# Altium footprint library Hirose-DF13.PcbLib: 27 footprints (part 1 of 2)
Each footprint in its own frame and in the unit in brackets; x right, y up, seen from the top. Pads: shape width x height; smd on the part's side, far side on the other; paste and mask are expansions set on the pad; w line width, h text height; cw(c..) or ccw(c..) is an arc to the next point about the centre after c.
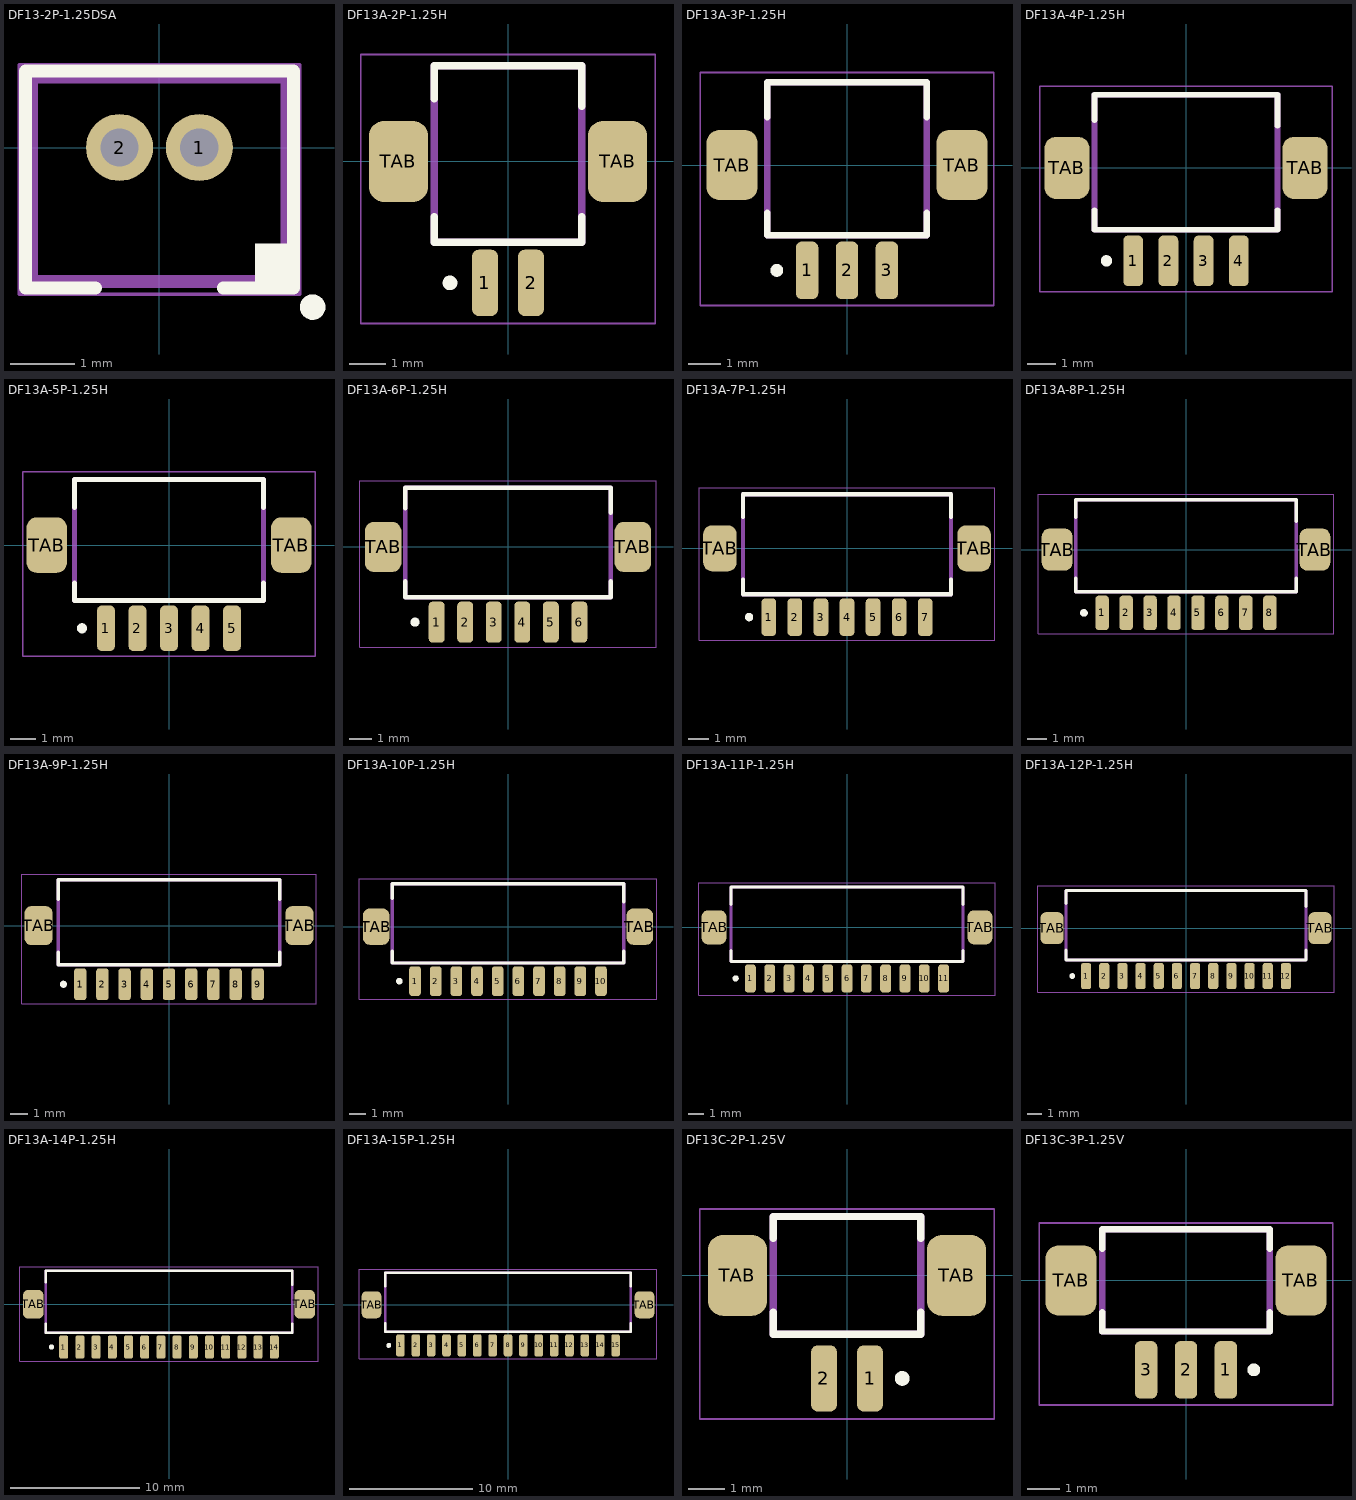
[diagram p0: the footprints below, top view; thin cyan lines are the x and y axes]

## DF13-2P-1.25DSA [mm] "DF13-2P-1.25DSA"
pads (2):
  round 1.05 hole 0.6: 1(0.625,0) 2(-0.625,0)
Top Overlay:
  circle w0.2: c2.4,-2.5 r0.1
  rectangle: 1.5,-2.2 2.1,-1.5
  lines w0.2: -1,-2.2 -2.1,-2.2 -2.1,1.2 2.1,1.2 2.1,-2.2 1,-2.2
Top Solder:
  circle w0: c-0.625,0 r0.55
  circle w0: c0.625,0 r0.55
Bottom Solder:
  circle w0: c0.625,0 r0.55
  circle w0: c-0.625,0 r0.55
Mechanical 13:
  lines w0.2: -2,-2.1 -2,1.1 2,1.1 2,-2.1 -2,-2.1
Mechanical 15:
  lines w0.05: -2.2,-2.3 -2.2,1.3 2.2,1.3 2.2,-2.3 -2.2,-2.3
  text ".Designator" at -2.2,-1.3 h1
3D body "DF13-2P-1.25DSA.stp": height 4.3, standoff -2.3, extent -2.075,-2.2 2.075,1.2

## DF13A-2P-1.25H [mm]
pads (4):
  rrect50% 0.7x1.8 smd: 1(-0.625,-3.3) 2(0.625,-3.3)
  rrect50% 1.6x2.2 smd: TAB(-2.975,0) TAB(2.975,0)
Top Overlay:
  circle w0.2: c-1.575,-3.3 r0.1
  lines w0.2: -2,-1.5 -2,-2.2 2,-2.2 2,-1.5 ; -2,1.7 -2,2.6 2,2.6 2,1.5
Mechanical 13:
  lines w0.2: -2,-2.2 -2,2.6 2,2.6 2,-2.2 -2,-2.2
Mechanical 15:
  lines w0.05: -4,-4.4 4,-4.4 4,2.9 -4,2.9 -4,-4.4
  text ".Designator" at -3.7,1.7 h1.5
3D body "DF13A-2P-1.25H.stp": height 3.6, standoff 0, extent -3.575,-3.8 3.575,2.7

## DF13A-3P-1.25H [mm]
pads (5):
  rrect50% 0.7x1.8 smd: 1(-1.25,-3.3) 2(0,-3.3) 3(1.25,-3.3)
  rrect50% 1.6x2.2 smd: TAB(-3.6,0) TAB(3.6,0)
Top Overlay:
  circle w0.2: c-2.2,-3.3 r0.1
  lines w0.2: -2.5,-1.5 -2.5,-2.2 2.5,-2.2 2.5,-1.5 ; -2.5,1.5 -2.5,2.6 2.5,2.6 2.5,1.5
Mechanical 13:
  lines w0.2: -2.5,-2.2 -2.5,2.6 2.5,2.6 2.5,-2.2 -2.5,-2.2
Mechanical 15:
  lines w0.05: -4.6,-4.4 4.6,-4.4 4.6,2.9 -4.6,2.9 -4.6,-4.4
  text ".Designator" at -4.4,1.7 h1.5
3D body "DF13A-3P-1.25H.stp": height 3.6, standoff 0, extent -4.2,-3.8 4.2,2.7

## DF13A-4P-1.25H [mm]
pads (6):
  rrect50% 0.7x1.8 smd: 1(-1.875,-3.3) 2(-0.625,-3.3) 3(0.625,-3.3) 4(1.875,-3.3)
  rrect50% 1.6x2.2 smd: TAB(-4.225,0) TAB(4.225,0)
Top Overlay:
  circle w0.2: c-2.825,-3.3 r0.1
  lines w0.2: -3.25,-1.5 -3.25,-2.2 3.25,-2.2 3.25,-1.5 ; -3.25,1.7 -3.25,2.6 3.25,2.6 3.25,1.5
Mechanical 13:
  lines w0.2: -3.25,-2.2 3.25,-2.2 3.25,2.6 -3.25,2.6 -3.25,-2.2
Mechanical 15:
  lines w0.05: -5.2,-4.4 -5.2,2.9 5.2,2.9 5.2,-4.4 -5.2,-4.4
  text ".Designator" at -4.4,1.7 h1.5
3D body "DF13A-4P-1.25H.stp": height 3.6, standoff 0, extent -4.825,-3.8 4.825,2.7

## DF13A-5P-1.25H [mm]
pads (7):
  rrect50% 0.7x1.8 smd: 1(-2.5,-3.3) 2(-1.25,-3.3) 3(0,-3.3) 4(1.25,-3.3) 5(2.5,-3.3)
  rrect50% 1.6x2.2 smd: TAB(-4.85,0) TAB(4.85,0)
Top Overlay:
  circle w0.2: c-3.45,-3.3 r0.1
  lines w0.2: -3.75,-1.5 -3.75,-2.2 3.75,-2.2 3.75,-1.5 ; -3.75,1.5 -3.75,2.6 3.75,2.6 3.75,1.5
Mechanical 13:
  lines w0.2: -3.75,-2.2 3.75,-2.2 3.75,2.6 -3.75,2.6 -3.75,-2.2
Mechanical 15:
  lines w0.05: -5.8,-4.4 -5.8,2.9 5.8,2.9 5.8,-4.4 -5.8,-4.4
  text ".Designator" at -4.4,1.7 h1.5
3D body "DF13A-5P-1.25H.stp": height 3.6, standoff 0, extent -5.45,-3.8 5.45,2.7

## DF13A-6P-1.25H [mm]
pads (8):
  rrect50% 0.7x1.8 smd: 1(-3.125,-3.3) 2(-1.875,-3.3) 3(-0.625,-3.3) 4(0.625,-3.3) 5(1.875,-3.3) 6(3.125,-3.3)
  rrect50% 1.6x2.2 smd: TAB(-5.475,0) TAB(5.475,0)
Top Overlay:
  circle w0.2: c-4.075,-3.3 r0.1
  lines w0.2: -4.5,-1.5 -4.5,-2.2 4.5,-2.2 4.5,-1.5 ; -4.5,1.7 -4.5,2.6 4.5,2.6 4.5,1.5
Mechanical 13:
  lines w0.2: -4.5,-2.2 -4.5,2.6 4.5,2.6 4.5,-2.2 -4.5,-2.2
Mechanical 15:
  lines w0.05: -6.5,-4.4 6.5,-4.4 6.5,2.9 -6.5,2.9 -6.5,-4.4
  text ".Designator" at -4.4,1.7 h1.5
3D body "DF13A-6P-1.25H.stp": height 3.6, standoff 0, extent -6.075,-3.8 6.075,2.7

## DF13A-7P-1.25H [mm]
pads (9):
  rrect50% 0.7x1.8 smd: 1(-3.75,-3.3) 2(-2.5,-3.3) 3(-1.25,-3.3) 4(0,-3.3) 5(1.25,-3.3) 6(2.5,-3.3) 7(3.75,-3.3)
  rrect50% 1.6x2.2 smd: TAB(-6.1,0) TAB(6.1,0)
Top Overlay:
  circle w0.2: c-4.7,-3.3 r0.1
  lines w0.2: -5,-1.5 -5,-2.2 5,-2.2 5,-1.5 ; -5,1.5 -5,2.6 5,2.6 5,1.5
Mechanical 13:
  lines w0.2: -5,-2.2 -5,2.6 5,2.6 5,-2.2 -5,-2.2
Mechanical 15:
  lines w0.05: -7.1,-4.4 7.1,-4.4 7.1,2.9 -7.1,2.9 -7.1,-4.4
  text ".Designator" at -4.4,1.7 h1.5
3D body "DF13A-7P-1.25H.stp": height 3.6, standoff 0, extent -6.7,-3.8 6.7,2.7

## DF13A-8P-1.25H [mm]
pads (10):
  rrect50% 0.7x1.8 smd: 1(-4.375,-3.3) 2(-3.125,-3.3) 3(-1.875,-3.3) 4(-0.625,-3.3) 5(0.625,-3.3) 6(1.875,-3.3) 7(3.125,-3.3) 8(4.375,-3.3)
  rrect50% 1.6x2.2 smd: TAB(-6.725,0) TAB(6.725,0)
Top Overlay:
  circle w0.2: c-5.325,-3.3 r0.1
  lines w0.2: -5.75,-1.5 -5.75,-2.2 5.75,-2.2 5.75,-1.5 ; -5.75,1.7 -5.75,2.6 5.75,2.6 5.75,1.5
Mechanical 13:
  lines w0.2: -5.75,-2.2 -5.75,2.6 5.75,2.6 5.75,-2.2 -5.75,-2.2
Mechanical 15:
  lines w0.05: -7.7,-4.4 7.7,-4.4 7.7,2.9 -7.7,2.9 -7.7,-4.4
  text ".Designator" at -4.4,1.7 h1.5
3D body "DF13A-8P-1.25H.stp": height 3.6, standoff 0, extent -7.325,-3.8 7.325,2.7

## DF13A-9P-1.25H [mm]
pads (11):
  rrect50% 0.7x1.8 smd: 1(-5,-3.3) 2(-3.75,-3.3) 3(-2.5,-3.3) 4(-1.25,-3.3) 5(0,-3.3) 6(1.25,-3.3) 7(2.5,-3.3) 8(3.75,-3.3) 9(5,-3.3)
  rrect50% 1.6x2.2 smd: TAB(-7.35,0) TAB(7.35,0)
Top Overlay:
  circle w0.2: c-5.95,-3.3 r0.1
  lines w0.2: -6.25,-1.5 -6.25,-2.2 6.25,-2.2 6.25,-1.5 ; -6.25,1.5 -6.25,2.6 6.25,2.6 6.25,1.5
Mechanical 13:
  lines w0.2: -6.25,-2.2 6.25,-2.2 6.25,2.6 -6.25,2.6 -6.25,-2.2
Mechanical 15:
  lines w0.05: -8.3,-4.4 -8.3,2.9 8.3,2.9 8.3,-4.4 -8.3,-4.4
  text ".Designator" at -5.65,1.7 h1.5
3D body "DF13A-9P-1.25H.stp": height 3.6, standoff 0, extent -7.95,-3.8 7.95,2.7

## DF13A-10P-1.25H [mm]
pads (12):
  rrect50% 0.7x1.8 smd: 1(-5.625,-3.3) 2(-4.375,-3.3) 3(-3.125,-3.3) 4(-1.875,-3.3) 5(-0.625,-3.3) 6(0.625,-3.3) 7(1.875,-3.3) 8(3.125,-3.3) 9(4.375,-3.3) 10(5.625,-3.3)
  rrect50% 1.6x2.2 smd: TAB(-7.975,0) TAB(7.975,0)
Top Overlay:
  circle w0.2: c-6.575,-3.3 r0.1
  lines w0.2: -7,-1.5 -7,-2.2 7,-2.2 7,-1.5 ; -7,1.7 -7,2.6 7,2.6 7,1.5
Mechanical 13:
  lines w0.2: -7,-2.2 -7,2.6 7,2.6 7,-2.2 -7,-2.2
Mechanical 15:
  lines w0.05: -9,-4.4 9,-4.4 9,2.9 -9,2.9 -9,-4.4
  text ".Designator" at -5.65,1.7 h1.5
3D body "DF13A-10P-1.25H.stp": height 3.6, standoff 0, extent -8.575,-3.8 8.575,2.7

## DF13A-11P-1.25H [mm]
pads (13):
  rrect50% 0.7x1.8 smd: 1(-6.25,-3.3) 2(-5,-3.3) 3(-3.75,-3.3) 4(-2.5,-3.3) 5(-1.25,-3.3) 6(0,-3.3) 7(1.25,-3.3) 8(2.5,-3.3) 9(3.75,-3.3) 10(5,-3.3) 11(6.25,-3.3)
  rrect50% 1.6x2.2 smd: TAB(-8.6,0) TAB(8.6,0)
Top Overlay:
  circle w0.2: c-7.2,-3.3 r0.1
  lines w0.2: -7.5,-1.5 -7.5,-2.2 7.5,-2.2 7.5,-1.5 ; -7.5,1.5 -7.5,2.6 7.5,2.6 7.5,1.5
Mechanical 13:
  lines w0.2: -7.5,-2.2 -7.5,2.6 7.5,2.6 7.5,-2.2 -7.5,-2.2
Mechanical 15:
  lines w0.05: -9.6,-4.4 9.6,-4.4 9.6,2.9 -9.6,2.9 -9.6,-4.4
  text ".Designator" at -6.9,1.7 h1.5
3D body "DF13A-11P-1.25H.stp": height 3.6, standoff 0, extent -9.2,-3.8 9.2,2.7

## DF13A-12P-1.25H [mm]
pads (14):
  rrect50% 0.7x1.8 smd: 1(-6.875,-3.3) 2(-5.625,-3.3) 3(-4.375,-3.3) 4(-3.125,-3.3) 5(-1.875,-3.3) 6(-0.625,-3.3) 7(0.625,-3.3) 8(1.875,-3.3) 9(3.125,-3.3) 10(4.375,-3.3) 11(5.625,-3.3) 12(6.875,-3.3)
  rrect50% 1.6x2.2 smd: TAB(-9.225,0) TAB(9.225,0)
Top Overlay:
  circle w0.2: c-7.825,-3.3 r0.1
  lines w0.2: -8.25,-1.5 -8.25,-2.2 8.25,-2.2 8.25,-1.5 ; -8.25,1.7 -8.25,2.6 8.25,2.6 8.25,1.5
Mechanical 13:
  lines w0.2: -8.25,-2.2 -8.25,2.6 8.25,2.6 8.25,-2.2 -8.25,-2.2
Mechanical 15:
  lines w0.05: -10.2,-4.4 10.2,-4.4 10.2,2.9 -10.2,2.9 -10.2,-4.4
  text ".Designator" at -6.9,1.7 h1.5
3D body "DF13A-12P-1.25H.stp": height 3.6, standoff 0, extent -9.825,-3.8 9.825,2.7

## DF13A-14P-1.25H [mm]
pads (16):
  rrect50% 0.7x1.8 smd: 1(-8.125,-3.3) 2(-6.875,-3.3) 3(-5.625,-3.3) 4(-4.375,-3.3) 5(-3.125,-3.3) 6(-1.875,-3.3) 7(-0.625,-3.3) 8(0.625,-3.3) 9(1.875,-3.3) 10(3.125,-3.3) 11(4.375,-3.3) 12(5.625,-3.3) 13(6.875,-3.3) 14(8.125,-3.3)
  rrect50% 1.6x2.2 smd: TAB(-10.475,0) TAB(10.475,0)
Top Overlay:
  circle w0.2: c-9.075,-3.3 r0.1
  lines w0.2: -9.5,-1.5 -9.5,-2.2 9.5,-2.2 9.5,-1.5 ; -9.5,1.7 -9.5,2.6 9.5,2.6 9.5,1.5
Mechanical 13:
  lines w0.2: -9.5,-2.2 -9.5,2.6 9.5,2.6 9.5,-2.2 -9.5,-2.2
Mechanical 15:
  lines w0.05: -11.5,-4.4 11.5,-4.4 11.5,2.9 -11.5,2.9 -11.5,-4.4
  text ".Designator" at -8.15,1.7 h1.5
3D body "DF13A-14P-1.25H.stp": height 3.6, standoff 0, extent -11.075,-3.8 11.075,2.7

## DF13A-15P-1.25H [mm]
pads (17):
  rrect50% 0.7x1.8 smd: 1(-8.75,-3.3) 2(-7.5,-3.3) 3(-6.25,-3.3) 4(-5,-3.3) 5(-3.75,-3.3) 6(-2.5,-3.3) 7(-1.25,-3.3) 8(0,-3.3) 9(1.25,-3.3) 10(2.5,-3.3) 11(3.75,-3.3) 12(5,-3.3) 13(6.25,-3.3) 14(7.5,-3.3) 15(8.75,-3.3)
  rrect50% 1.6x2.2 smd: TAB(-11.1,0) TAB(11.1,0)
Top Overlay:
  circle w0.2: c-9.7,-3.3 r0.1
  lines w0.2: -10,-1.5 -10,-2.2 10,-2.2 10,-1.5 ; -10,1.5 -10,2.6 10,2.6 10,1.5
Mechanical 13:
  lines w0.2: -10,-2.2 10,-2.2 10,2.6 -10,2.6 -10,-2.2
Mechanical 15:
  lines w0.05: -12.1,-4.4 -12.1,2.9 12.1,2.9 12.1,-4.4 -12.1,-4.4
  text ".Designator" at -9.4,1.7 h1.5
3D body "DF13A-15P-1.25H.stp": height 3.6, standoff 0, extent -11.7,-3.8 11.7,2.7

## DF13C-2P-1.25V [mm]
pads (4):
  rrect50% 0.7x1.8 smd: 1(0.625,-2.8) 2(-0.625,-2.8)
  rrect50% 1.6x2.2 smd: TAB(-2.975,0) TAB(2.975,0)
Top Overlay:
  circle w0.2: c1.5,-2.8 r0.1
  lines w0.2: -2,-1 -2,-1.6 2,-1.6 2,-1 ; -2,1 -2,1.6 2,1.6 2,1
Mechanical 13:
  lines w0.2: -2,-1.6 -2,1.6 2,1.6 2,-1.6 -2,-1.6
Mechanical 15:
  lines w0.05: -4,-3.9 -4,1.8 4,1.8 4,-3.9 -4,-3.9
  text ".Designator" at -3.3,0.3 h1.5
3D body "DF13C-2P-1.25V.stp": height 4.8, standoff 0, extent -3.575,-3.2 3.575,1.7

## DF13C-3P-1.25V [mm]
pads (5):
  rrect50% 0.7x1.8 smd: 1(1.25,-2.8) 2(0,-2.8) 3(-1.25,-2.8)
  rrect50% 1.6x2.2 smd: TAB(-3.6,0) TAB(3.6,0)
Top Overlay:
  circle w0.2: c2.125,-2.8 r0.1
  lines w0.2: -2.625,-1 -2.625,-1.6 2.625,-1.6 2.625,-1 ; -2.625,1 -2.625,1.6 2.625,1.6 2.625,1
Mechanical 13:
  lines w0.2: -2.625,-1.6 -2.625,1.6 2.625,1.6 2.625,-1.6 -2.625,-1.6
Mechanical 15:
  lines w0.05: -4.6,-3.9 -4.6,1.8 4.6,1.8 4.6,-3.9 -4.6,-3.9
  text ".Designator" at -3.3,0.3 h1.5
3D body "DF13C-3P-1.25V.stp": height 4.8, standoff 0, extent -4.2,-3.2 4.2,1.7